# Altium footprint library FerriteBeads.PcbLib: 3 footprints
Each footprint in its own frame and in the unit in brackets; x right, y up, seen from the top. Pads: shape width x height; smd on the part's side, far side on the other; paste and mask are expansions set on the pad; w line width, h text height; cw(c..) or ccw(c..) is an arc to the next point about the centre after c.
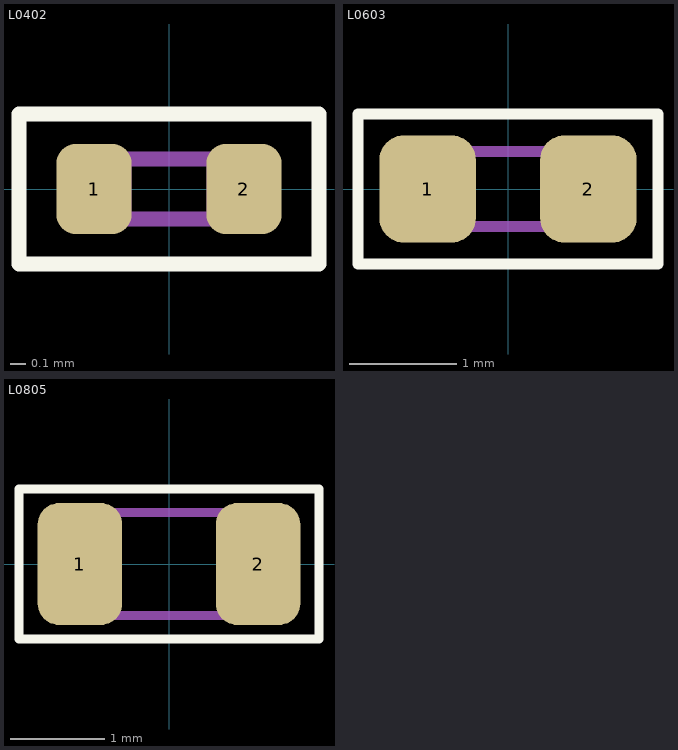
[diagram p0: the footprints below, top view; thin cyan lines are the x and y axes]

## L0402 [mm]
pads (2):
  rrect50% 0.5x0.6 smd: 1(-0.5,0) 2(0.5,0)
Top Overlay:
  lines w0.1: -1,-0.5 -1,0.5 1,0.5 1,-0.5 -1,-0.5
Mechanical 13:
  region: 0.5,0.25 0.25,0.25 0.25,-0.25 0.5,-0.25
  rectangle: -0.25,0.15 0.25,0.25
  rectangle: -0.5,-0.25 -0.25,0.25
  rectangle: -0.25,-0.25 0.25,-0.15
Mechanical 15:
  lines w0.05: -1,-0.5 -1,0.5 1,0.5 1,-0.5 -1,-0.5
  text ".Designator" at -0.8,-0.1 h0.5
3D body "User Library-Chip Inductor.step": height 0.5, standoff 0, extent -0.5,-0.3 0.5,0.3

## L0603 [mm]
pads (2):
  rrect50% 0.9x1 smd: 1(-0.75,0) 2(0.75,0)
Top Overlay:
  lines w0.1: -1.4,-0.7 1.4,-0.7 1.4,0.7 -1.4,0.7 -1.4,-0.7
Mechanical 13:
  rectangle: -0.8,-0.4 -0.5,0.4
  rectangle: 0.5,-0.4 0.8,0.4
  rectangle: -0.5,-0.4 0.5,-0.3
  rectangle: -0.5,0.3 0.5,0.4
Mechanical 15:
  lines w0.05: -1.4,-0.7 -1.4,0.7 1.4,0.7 1.4,-0.7 -1.4,-0.7
  text ".Designator" at -1.1,-0.1 h0.5
3D body "User Library-Chip Inductor (1).step": height 0.8, standoff 0, extent -0.8,-0.475 0.8,0.475

## L0805 [mm]
pads (2):
  rrect50% 0.9x1.3 smd: 1(-0.95,0) 2(0.95,0)
Top Overlay:
  lines w0.1: -1.6,-0.8 -1.6,0.8 1.6,0.8 1.6,-0.8 -1.6,-0.8
Mechanical 13:
  rectangle: -0.6,0.5 0.6,0.6
  rectangle: -0.6,-0.6 0.6,-0.5
  rectangle: 0.6,-0.6 1,0.6
  rectangle: -1,-0.6 -0.6,0.6
Mechanical 15:
  lines w0.05: -1.6,-0.8 1.6,-0.8 1.6,0.8 -1.6,0.8 -1.6,-0.8
  text ".Designator" at -1.4,-0.2 h0.75
3D body "User Library-User Library-Chip InductorINDC2012X130N.step": height 1.2, standoff 0, extent -0.975,-0.65 1.025,0.65